# Altium footprint library LDO_lib.PcbLib: 24 footprints (part 2 of 2)
Each footprint in its own frame and in the unit in brackets; x right, y up, seen from the top. Pads: shape width x height; smd on the part's side, far side on the other; paste and mask are expansions set on the pad; w line width, h text height; cw(c..) or ccw(c..) is an arc to the next point about the centre after c.
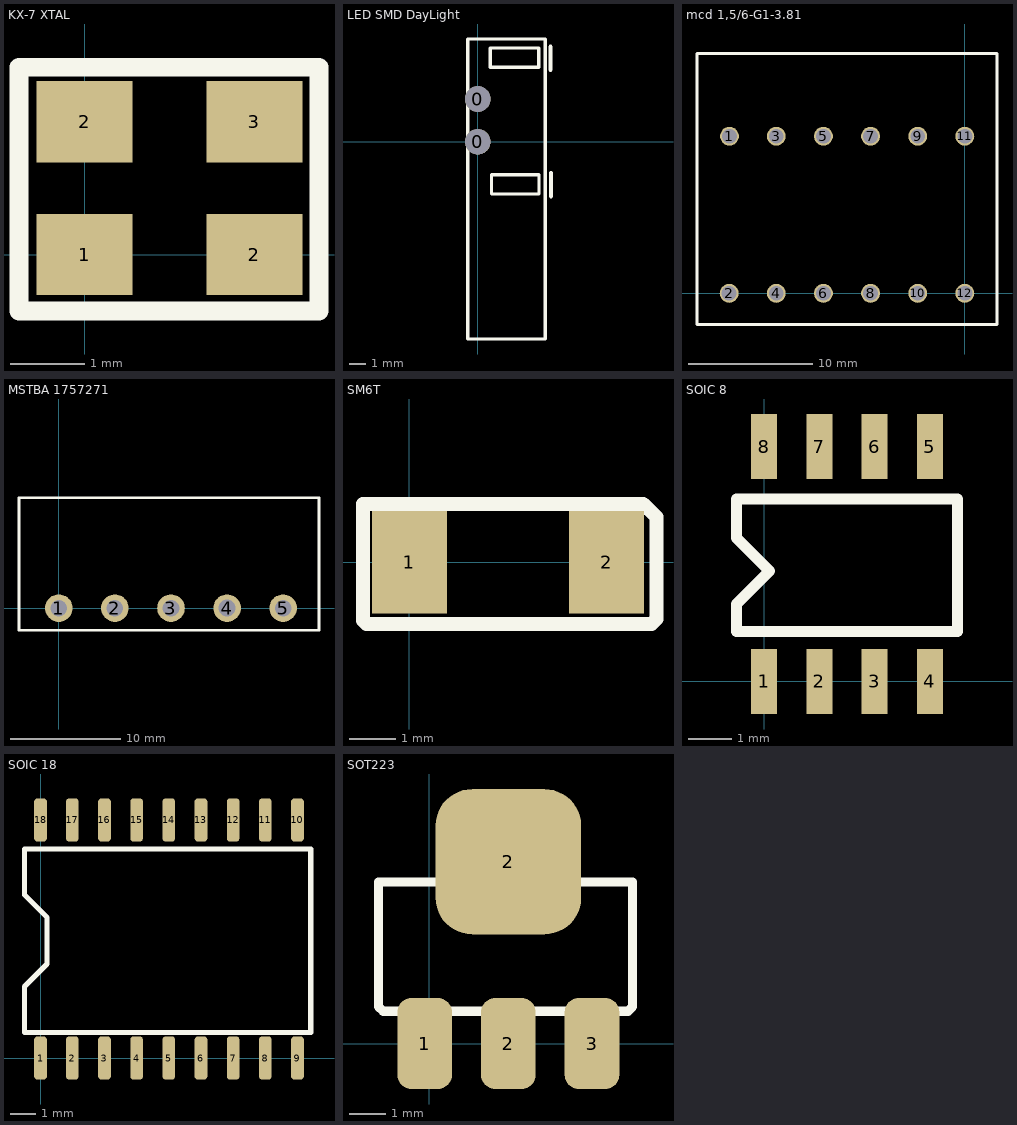
[diagram p1: the footprints below, top view; thin cyan lines are the x and y axes]

## KX-7 XTAL [mm]
height 1
pads (4):
  rect 1.3x1.1 smd: 1(0,0) 2(0,1.8) 2(2.3,0) 3(2.3,1.8)
Top Overlay:
  lines w0.254: -0.889,-0.762 -0.889,2.54 3.175,2.54 3.175,-0.762 -0.889,-0.762
3D body "KX7T.STEP": height 0.8, standoff 0, extent -0.457,-0.361 2.743,2.139

## LED SMD DayLight [mm]
pads (2):
  round 1.52 hole 1.52 paste+0 mask+0: 0(0,0) 0(0,2.54)
Top Overlay:
  lines w0.2: -0.6,1.905 -0.6,6.1 4,6.1 4,-11.7 -0.6,-11.7 -0.6,2.54 ; 0.737,4.42 0.737,5.563 3.607,5.563 3.607,4.42 0.737,4.42 ; 0.813,-3.099 0.813,-1.956 3.632,-1.956 3.632,-3.099 0.813,-3.099
  lines w0.254: 4.318,4.267 4.318,5.639 ; 4.343,-3.226 4.343,-1.854

## mcd 1,5/6-G1-3.81 [mil]
height 43.31
pads (12):
  round 60 hole 47.24: 1(-749,500) 2(-750,0) 3(-600,500) 4(-600,0) 5(-450,500) 6(-450,0) 7(-300,500) 8(-300,0) 9(-150,500) 10(-150,0) 11(0,500) 12(0,0)
Top Overlay:
  lines w10: -852.36,-98.43 -852.36,762.8 ; -852,762.8 102,763 ; -851.58,-99 102,-99 ; 102.36,-98.43 102.36,762.8
3D body "MCD 15.6-G1-3.81.STEP": height 893.7, standoff -137.8, extent -847.36,-45 107.36,817.2

## MSTBA 1757271 [mm]
height 8
pads (5):
  round 2.5 hole 1.5: 1(0,0) 2(5.08,0) 3(10.16,0) 5(20.32,0)
  round 2.5 hole 1.55: 4(15.24,0)
Top Overlay:
  lines w0.254: -3.6,-2 23.56,-2 23.56,10 -3.6,10 -3.6,-2
3D body "MSTBA-2.5-5-G-5.08.STEP": height 8.6, standoff -3.5, extent -3.524,-2.034 23.876,9.968

## SM6T [mm]
height 3
pads (2):
  rect 1.6x2.2 smd: 1(0,0) 2(4.22,0)
Top Overlay:
  lines w0.3: -0.991,-1.245 -0.914,-1.321 5.182,-1.321 5.283,-1.219 5.283,0.965 5.004,1.245 -0.991,1.245 -0.991,-1.245
3D body "SMAJ5.0CA.STEP": height 2.4, standoff 0, extent -0.573,-1.303 4.637,1.303

## SOIC 8 [mm]
height 1
pads (8):
  rect 0.6x1.5 smd: 1(0,0) 2(1.27,0) 3(2.54,0) 4(3.81,0) 5(3.81,5.4) 6(2.54,5.4) 7(1.27,5.4) 8(0,5.4)
Top Overlay:
  lines w0.254: -0.635,1.143 -0.635,1.778 0.127,2.54 -0.635,3.302 -0.635,4.191 4.445,4.191 4.445,1.143 -0.635,1.143
3D body "SN65HVD32DR.STEP": height 1.75, standoff 0, extent -0.548,-0.455 4.357,5.535

## SOIC 18 [mm]
height 2
pads (18):
  rrect50% 0.5x1.7 smd: 1(0,0) 2(1.255,0) 3(2.525,0) 4(3.795,0) 5(5.065,0) 6(6.335,0) 7(7.605,0) 8(8.875,0) 9(10.145,0) 10(10.145,9.4) 11(8.875,9.4) 12(7.605,9.4) 13(6.335,9.4) 14(5.065,9.4) 15(3.795,9.4) 16(2.525,9.4) 17(1.255,9.4) 18(0,9.4)
Top Overlay:
  lines w0.2: -0.635,1.016 10.668,1.016 10.668,8.255 -0.635,8.255 -0.635,6.445 0.254,5.556 0.254,3.715 -0.635,2.826 -0.635,1.016
3D body "SOIC18.STEP": height 2.65, standoff 0, extent -0.695,-0.451 10.855,9.849

## SOT223 [mm]
height 1
pads (4):
  rrect50% 1.5x2.5 smd mask+0.1: 1(-0.127,0) 2(2.173,0) 3(4.473,0)
  rrect50% 4x4 smd: 2(2.173,5)
Top Overlay:
  lines w0.254: -1.397,1.016 -1.397,4.445 5.588,4.445 5.588,1.016 5.461,0.889 -1.27,0.889 -1.397,1.016
3D body "SOT223.STEP": height 1.8, standoff 0, extent -1.091,-0.578 5.409,6.42